# EAGLE library part BM09B-NSHSS-TBT (library NSH)
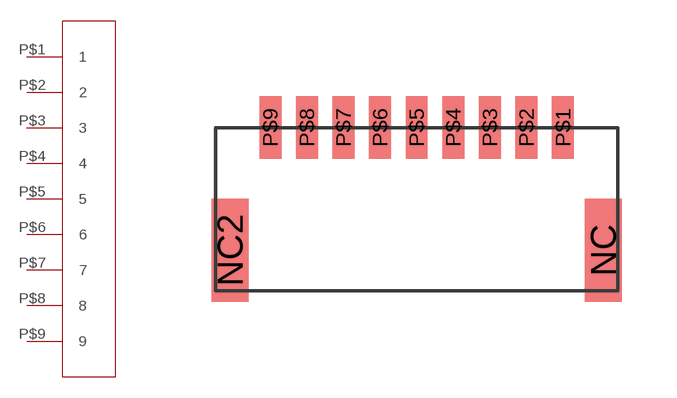
[diagram p3: symbol with the pads of BM09B-NSHSS-TBT; footprint BM09B-NSHSS-TBT]

Designator prefix -

## BM09B-NSHSS-TBT  [BM09B-NSHSS-TBT]
P$1  1
P$2  2
P$3  3
P$4  4
P$5  5
P$6  6
P$7  7
P$8  8
P$9  9

## Footprint BM09B-NSHSS-TBT (pad centres in mm)
smd 1 x 2.8: NC 5.1,1.4; NC2 -5.1,1.4
smd 0.6 x 1.7: P$1 4,4.75; P$2 3,4.75; P$3 2,4.75; P$4 1,4.75; P$5 0,4.75; P$6 -1,4.75; P$7 -2,4.75; P$8 -3,4.75; P$9 -4,4.75